# Altium schematic symbol library schlib_of_zj.SCHLIB: 13 symbols
Pins are listed as number, name and electrical type; pins without a type are passive.

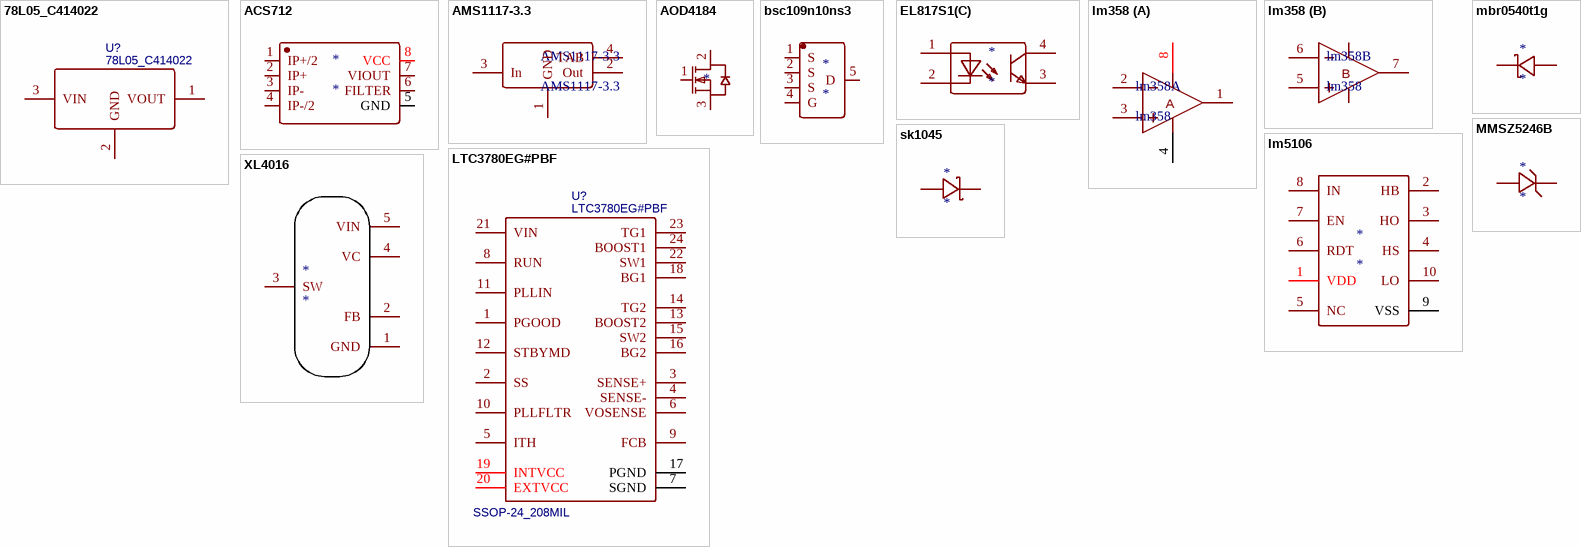
[diagram p0: symbols 78L05_C414022 to XL4016]

## 78L05_C414022
designator U?
BOM_Manufacturer: MDD（Microdiode Electronics）; BOM_Manufacturer Part: 78L05; Contributor: LCSC; BOM_Supplier: LCSC; BOM_Supplier Part: C414022; spicePre: U; spiceSymbolName: 78L05_C414022
footprint SOT-89-3_L4.5-W2.5-P1.50-LS4.2-BR
pins: 1 VOUT, 2 GND, 3 VIN

## ACS712
designator *
footprint ACS712
pins: 1 IP+/2, 2 IP+, 3 IP-, 4 IP-/2, 5 GND, 6 FILTER, 7 VIOUT, 8 VCC

## AMS1117-3.3
designator AMS1117-3.3
footprint AMS1117-3.3
pins: 1 GND, 2 Out, 3 In, 4 TAB

## AOD4184
designator ?
footprint TO-252-2(DPAK) (AOD4184)
pins: 1 G, 2 D, 3 S

## bsc109n10ns3
designator *
footprint bsc109n10ns3
pins: 1 S, 2 S, 3 S, 4 G, 5 D

## EL817S1(C)
designator *
pins: 1 AN, 2 CAT, 3 EM, 4 COL

## lm358
designator lm358
footprint SOP-8 (lm358)
part A pins: 1 OUTA, 2 INA-, 3 INA+, 4 VEE/GND, 8 VCC
part B pins: 5 INB+, 6 INB-, 7 OUTB
part A text: A
part B text: B

## lm5106
designator *
footprint lm5106
pins: 1 VDD, 2 HB, 3 HO, 4 HS, 5 NC, 6 RDT, 7 EN, 8 IN, 9 VSS, 10 LO

## LTC3780EG#PBF
designator U?
BOM_Manufacturer: LINEAR; Package Display: Yes; BOM_Supplier: LCSC; BOM_Manufacturer Part: LTC3780EG#PBF; BOM_Supplier Part: C86301; spicePre: U; spiceSymbolName: LTC3780EG#PBF
footprint SSOP-24_208MIL
pins: 1 PGOOD, 2 SS, 3 SENSE+, 4 SENSE-, 5 ITH, 6 VOSENSE, 7 SGND, 8 RUN, 9 FCB, 10 PLLFLTR, 11 PLLIN, 12 STBYMD, 13 BOOST2, 14 TG2, 15 SW2, 16 BG2, 17 PGND, 18 BG1, 19 INTVCC, 20 EXTVCC, 21 VIN, 22 SW1, 23 TG1, 24 BOOST1
text: SSOP-24_208MIL

## mbr0540t1g
designator *
pins: 1 A, 2 K

## MMSZ5246B
designator *
footprint SOD-123 (MMSZ5246B)
pins: 1 A, 2 K

## sk1045
designator *
footprint sk1045
pins: 1 A, 2 K

## XL4016
designator *
pins: 1 GND, 2 FB, 3 SW, 4 VC, 5 VIN